# EAGLE library part WF-11 (library gost_con_wf)
Разъем WF шаг 2.54mm
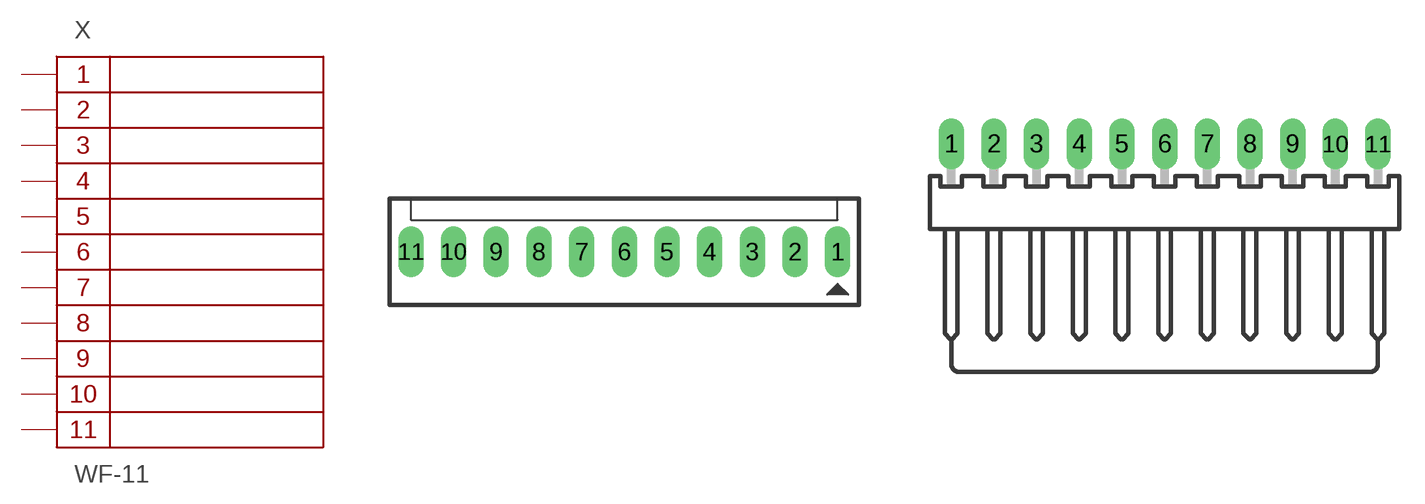
[diagram p10: symbol with the pads of WF-11; footprints WF-11, WF-11R]

Designator prefix X

## WF-11  [WF-11]
1  1
2  2
3  3
4  4
5  5
6  6
7  7
8  8
9  9
10  10
11  11

## WF-11R  [WF-11R]
Pads as for WF-11

## Footprint WF-11 (pad centres in mm)
Разъем WF-11 2.54mm
drill 1 pad 1.5 long: 1 12.7,0; 2 10.16,0; 3 7.62,0; 4 5.08,0; 5 2.54,0; 6 0,0; 7 -2.54,0; 8 -5.08,0; 9 -7.62,0; 10 -10.16,0; 11 -12.7,0

## Footprint WF-11R (pad centres in mm)
Разъем WF-11R 2.54mm
drill 1.016 pad 1.5 long: 1 -12.7,0; 2 -10.16,0; 3 -7.62,0; 4 -5.08,0; 5 -2.54,0; 6 0,0; 7 2.54,0; 8 5.08,0; 9 7.62,0; 10 10.16,0; 11 12.7,0